# EAGLE library part STM32H750VB (library pimoroni-ics)
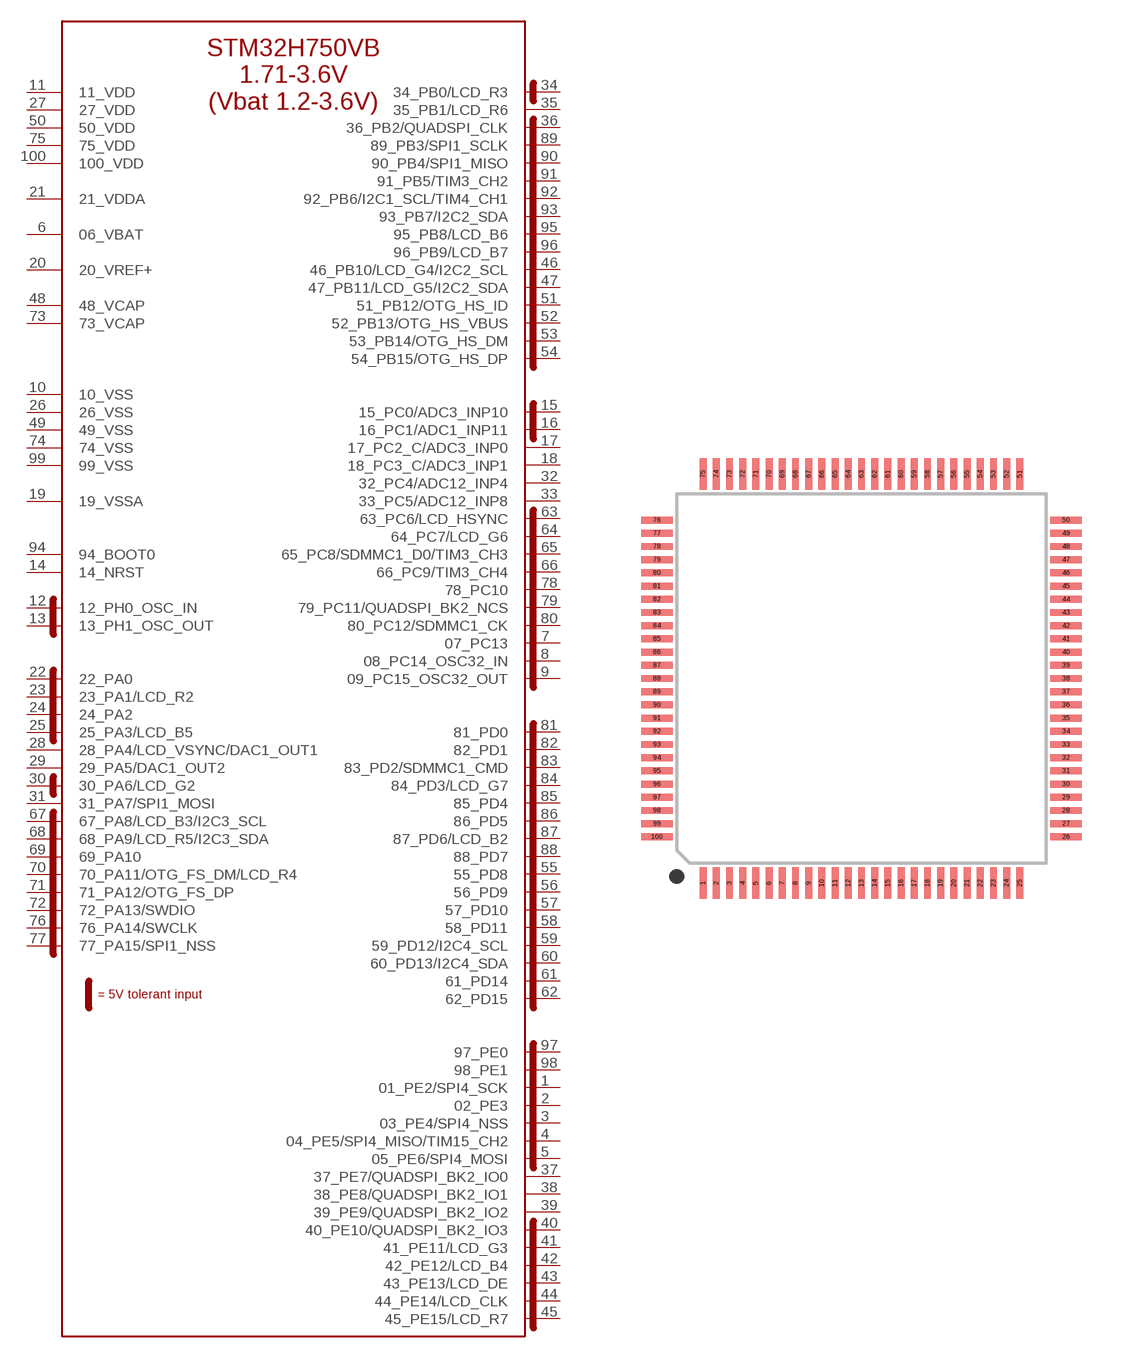
[diagram p90: symbol with the pads of LQFP-100; footprint LQFP-100]

Designator prefix U

## STM32H750VB  [LQFP-100]
1  01_PE2/SPI4_SCK
2  02_PE3
3  03_PE4/SPI4_NSS
4  04_PE5/SPI4_MISO/TIM15_CH2
5  05_PE6/SPI4_MOSI
6  06_VBAT
7  07_PC13
8  08_PC14_OSC32_IN
9  09_PC15_OSC32_OUT
10  10_VSS
11  11_VDD
12  12_PH0_OSC_IN
13  13_PH1_OSC_OUT
14  14_NRST
15  15_PC0/ADC3_INP10
16  16_PC1/ADC1_INP11
17  17_PC2_C/ADC3_INP0
18  18_PC3_C/ADC3_INP1
19  19_VSSA
20  20_VREF+
21  21_VDDA
22  22_PA0
23  23_PA1/LCD_R2
24  24_PA2
25  25_PA3/LCD_B5
26  26_VSS
27  27_VDD
28  28_PA4/LCD_VSYNC/DAC1_OUT1
29  29_PA5/DAC1_OUT2
30  30_PA6/LCD_G2
31  31_PA7/SPI1_MOSI
32  32_PC4/ADC12_INP4
33  33_PC5/ADC12_INP8
34  34_PB0/LCD_R3
35  35_PB1/LCD_R6
36  36_PB2/QUADSPI_CLK
37  37_PE7/QUADSPI_BK2_IO0
38  38_PE8/QUADSPI_BK2_IO1
39  39_PE9/QUADSPI_BK2_IO2
40  40_PE10/QUADSPI_BK2_IO3
41  41_PE11/LCD_G3
42  42_PE12/LCD_B4
43  43_PE13/LCD_DE
44  44_PE14/LCD_CLK
45  45_PE15/LCD_R7
46  46_PB10/LCD_G4/I2C2_SCL
47  47_PB11/LCD_G5/I2C2_SDA
48  48_VCAP
49  49_VSS
50  50_VDD
51  51_PB12/OTG_HS_ID
52  52_PB13/OTG_HS_VBUS
53  53_PB14/OTG_HS_DM
54  54_PB15/OTG_HS_DP
55  55_PD8
56  56_PD9
57  57_PD10
58  58_PD11
59  59_PD12/I2C4_SCL
60  60_PD13/I2C4_SDA
61  61_PD14
62  62_PD15
63  63_PC6/LCD_HSYNC
64  64_PC7/LCD_G6
65  65_PC8/SDMMC1_D0/TIM3_CH3
66  66_PC9/TIM3_CH4
67  67_PA8/LCD_B3/I2C3_SCL
68  68_PA9/LCD_R5/I2C3_SDA
69  69_PA10
70  70_PA11/OTG_FS_DM/LCD_R4
71  71_PA12/OTG_FS_DP
72  72_PA13/SWDIO
73  73_VCAP
74  74_VSS
75  75_VDD
76  76_PA14/SWCLK
77  77_PA15/SPI1_NSS
78  78_PC10
79  79_PC11/QUADSPI_BK2_NCS
80  80_PC12/SDMMC1_CK
81  81_PD0
82  82_PD1
83  83_PD2/SDMMC1_CMD
84  84_PD3/LCD_G7
85  85_PD4
86  86_PD5
87  87_PD6/LCD_B2
88  88_PD7
89  89_PB3/SPI1_SCLK
90  90_PB4/SPI1_MISO
91  91_PB5/TIM3_CH2
92  92_PB6/I2C1_SCL/TIM4_CH1
93  93_PB7/I2C2_SDA
94  94_BOOT0
95  95_PB8/LCD_B6
96  96_PB9/LCD_B7
97  97_PE0
98  98_PE1
99  99_VSS
100  100_VDD

## Footprint LQFP-100 (pad centres in mm)
smd 0.26 x 1.2: 1 -6,-7.75; 2 -5.5,-7.75; 3 -5,-7.75; 4 -4.5,-7.75; 5 -4,-7.75; 6 -3.5,-7.75; 7 -3,-7.75; 8 -2.5,-7.75; 9 -2,-7.75; 10 -1.5,-7.75; 11 -1,-7.75; 12 -0.5,-7.75; 13 0,-7.75; 14 0.5,-7.75; 15 1,-7.75; 16 1.5,-7.75; 17 2,-7.75; 18 2.5,-7.75; 19 3,-7.75; 20 3.5,-7.75; 21 4,-7.75; 22 4.5,-7.75; 23 5,-7.75; 24 5.5,-7.75; 25 6,-7.75; 51 6,7.75; 52 5.5,7.75; 53 5,7.75; 54 4.5,7.75; 55 4,7.75; 56 3.5,7.75; 57 3,7.75; 58 2.5,7.75; 59 2,7.75; 60 1.5,7.75; 61 1,7.75; 62 0.5,7.75; 63 0,7.75; 64 -0.5,7.75; 65 -1,7.75; 66 -1.5,7.75; 67 -2,7.75; 68 -2.5,7.75; 69 -3,7.75; 70 -3.5,7.75; 71 -4,7.75; 72 -4.5,7.75; 73 -5,7.75; 74 -5.5,7.75; 75 -6,7.75
smd 1.2 x 0.26: 26 7.75,-6; 27 7.75,-5.5; 28 7.75,-5; 29 7.75,-4.5; 30 7.75,-4; 31 7.75,-3.5; 32 7.75,-3; 33 7.75,-2.5; 34 7.75,-2; 35 7.75,-1.5; 36 7.75,-1; 37 7.75,-0.5; 38 7.75,0; 39 7.75,0.5; 40 7.75,1; 41 7.75,1.5; 42 7.75,2; 43 7.75,2.5; 44 7.75,3; 45 7.75,3.5; 46 7.75,4; 47 7.75,4.5; 48 7.75,5; 49 7.75,5.5; 50 7.75,6; 76 -7.75,6; 77 -7.75,5.5; 78 -7.75,5; 79 -7.75,4.5; 80 -7.75,4; 81 -7.75,3.5; 82 -7.75,3; 83 -7.75,2.5; 84 -7.75,2; 85 -7.75,1.5; 86 -7.75,1; 87 -7.75,0.5; 88 -7.75,0; 89 -7.75,-0.5; 90 -7.75,-1; 91 -7.75,-1.5; 92 -7.75,-2; 93 -7.75,-2.5; 94 -7.75,-3; 95 -7.75,-3.5; 96 -7.75,-4; 97 -7.75,-4.5; 98 -7.75,-5; 99 -7.75,-5.5; 100 -7.75,-6